# EAGLE library part BNO055 (library arduinoShield)
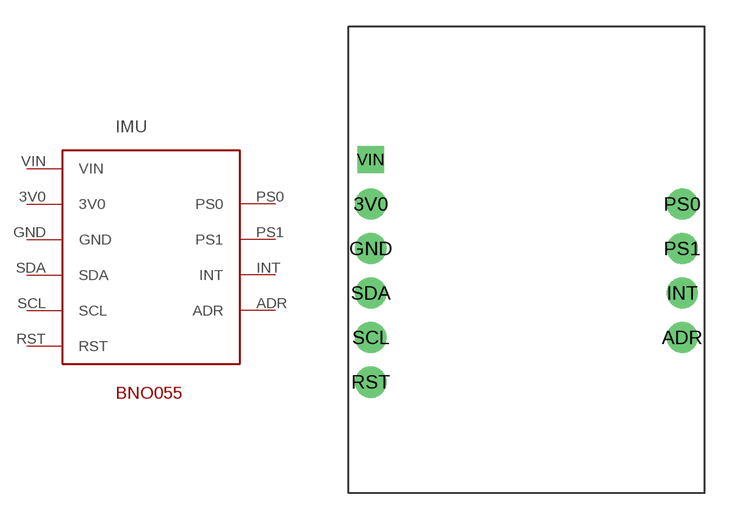
[diagram p0: symbol with the pads of BNO055; footprint BNO055]

Designator prefix IMU

## BNO055  [BNO055]
3V0  3V0
ADR  ADR
GND  GND
INT  INT
PS0  PS0
PS1  PS1
RST  RST
SCL  SCL
SDA  SDA
VIN  VIN

## Footprint BNO055 (pad centres in mm)
drill 1.016 pad 1.778: 3V0 1.27,-10.16; ADR 19.05,-17.78; GND 1.27,-12.7; INT 19.05,-15.24; PS0 19.05,-10.16; PS1 19.05,-12.7; RST 1.27,-20.32; SCL 1.27,-17.78; SDA 1.27,-15.24
drill 1.016 square: VIN 1.27,-7.62